# Altium schematic symbol library MCP4922.SchLib: 1 symbol
Pins are listed as number, name and electrical type; pins without a type are passive.

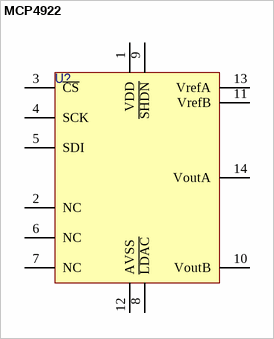
[diagram p0: symbol MCP4922]

## MCP4922
designator U?  (value not drawn)
pins: 1 VDD, 2 NC, 3 ~{CS}, 4 SCK, 5 SDI, 6 NC, 7 NC, 8 ~{LDAC}, 9 ~{SHDN}, 10 VoutB, 11 VrefB, 12 AVSS, 13 VrefA, 14 VoutA